# Altium schematic symbol library TLV74033PDBVR.SchLib: 1 symbol
Pins are listed as number, name and electrical type; pins without a type are passive.

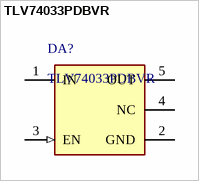
[diagram p0: symbol TLV74033PDBVR]

## TLV74033PDBVR
designator DA?
Single Output Fast Transient Response LDO, 300 mA, Fixed 3.3 V Output, 1.4 to 5.5 V Input,, 5-pin SOT-23 (DBV), -40 to 85 degC, Green (RoHS & no Sb/Br); Manufacturer: Texas Instruments; Vin(Min)(V): 1.4; Iq(Typ)(mA): 0.05; Vdo(Typ)(mV): 460; SubFamily: Single Channel LDO; Fixed Output Options(V): 3.3; Iout(Max)(A): 0.3; Accuracy(%): 1; Vout Adj(Max)(V): 5; Vin(Max)(V): 5.5; DatasheetVersion: SBVS037O; ComponentLink3URL: http://www.ti.com/litv/pdf/mpds018i; ComponentLink1URL: http://www.ti.com/; PartNumber: TLV74033PDBVR; ComponentLink3Description: Package Specification; Eco-Plan: Green (RoHS & no Sb/Br); Vout Adj(Min)(V): 3.3; Code_JEDEC: MO-178; PackageVersion: 4073253-4/K; PackageDescription: 5-Pin Plastic Small Outline, Body 1.60 Ãƒâ€” 2.90 mm, Pitch 0.95 mm; PackageReference: DBV0005A; Mounting Technology: Surface Mount; ComponentLink1Description: Manufacturer URL
footprint DBV0005A_M (SOT23, 5-Leads, Body 3.05x1.75mm, Pitch 0.95mm, IPC Low Density)
footprint DBV0005A_L (SOT23, 5-Leads, Body 3.05x1.75mm, Pitch 0.95mm, IPC High Density)
footprint DBV0005A_N (SOT23, 5-Leads, Body 3.05x1.75mm, Pitch 0.95mm, IPC Medium Density)
pins: 1 IN (power) "Input supply.", 2 GND (power) "Ground.", 3 EN (in) "Driving the enable pin (EN) high turns on the regulator .Driving this pin low puts the regulator into shutdown mode.EN can be connected to IN if not used.", 4 NC "Fixed voltage versions only; connecting an external capacitor to this pin bypasses noise generated by the internal bandgap. This capacitor allows output noise to be reduced to very low levels.", 5 OUT (power) "Output for the regulator. A small capacitor (total typical capacitance >= 2.0uF ceramic) is needed from this pin to ground to assure stability."